# Altium footprint library MSOP_SOP_SSOP_TSOP_TSSOP.PcbLib: 24 footprints (part 1 of 2)
Each footprint in its own frame and in the unit in brackets; x right, y up, seen from the top. Pads: shape width x height; smd on the part's side, far side on the other; paste and mask are expansions set on the pad; w line width, h text height; cw(c..) or ccw(c..) is an arc to the next point about the centre after c.
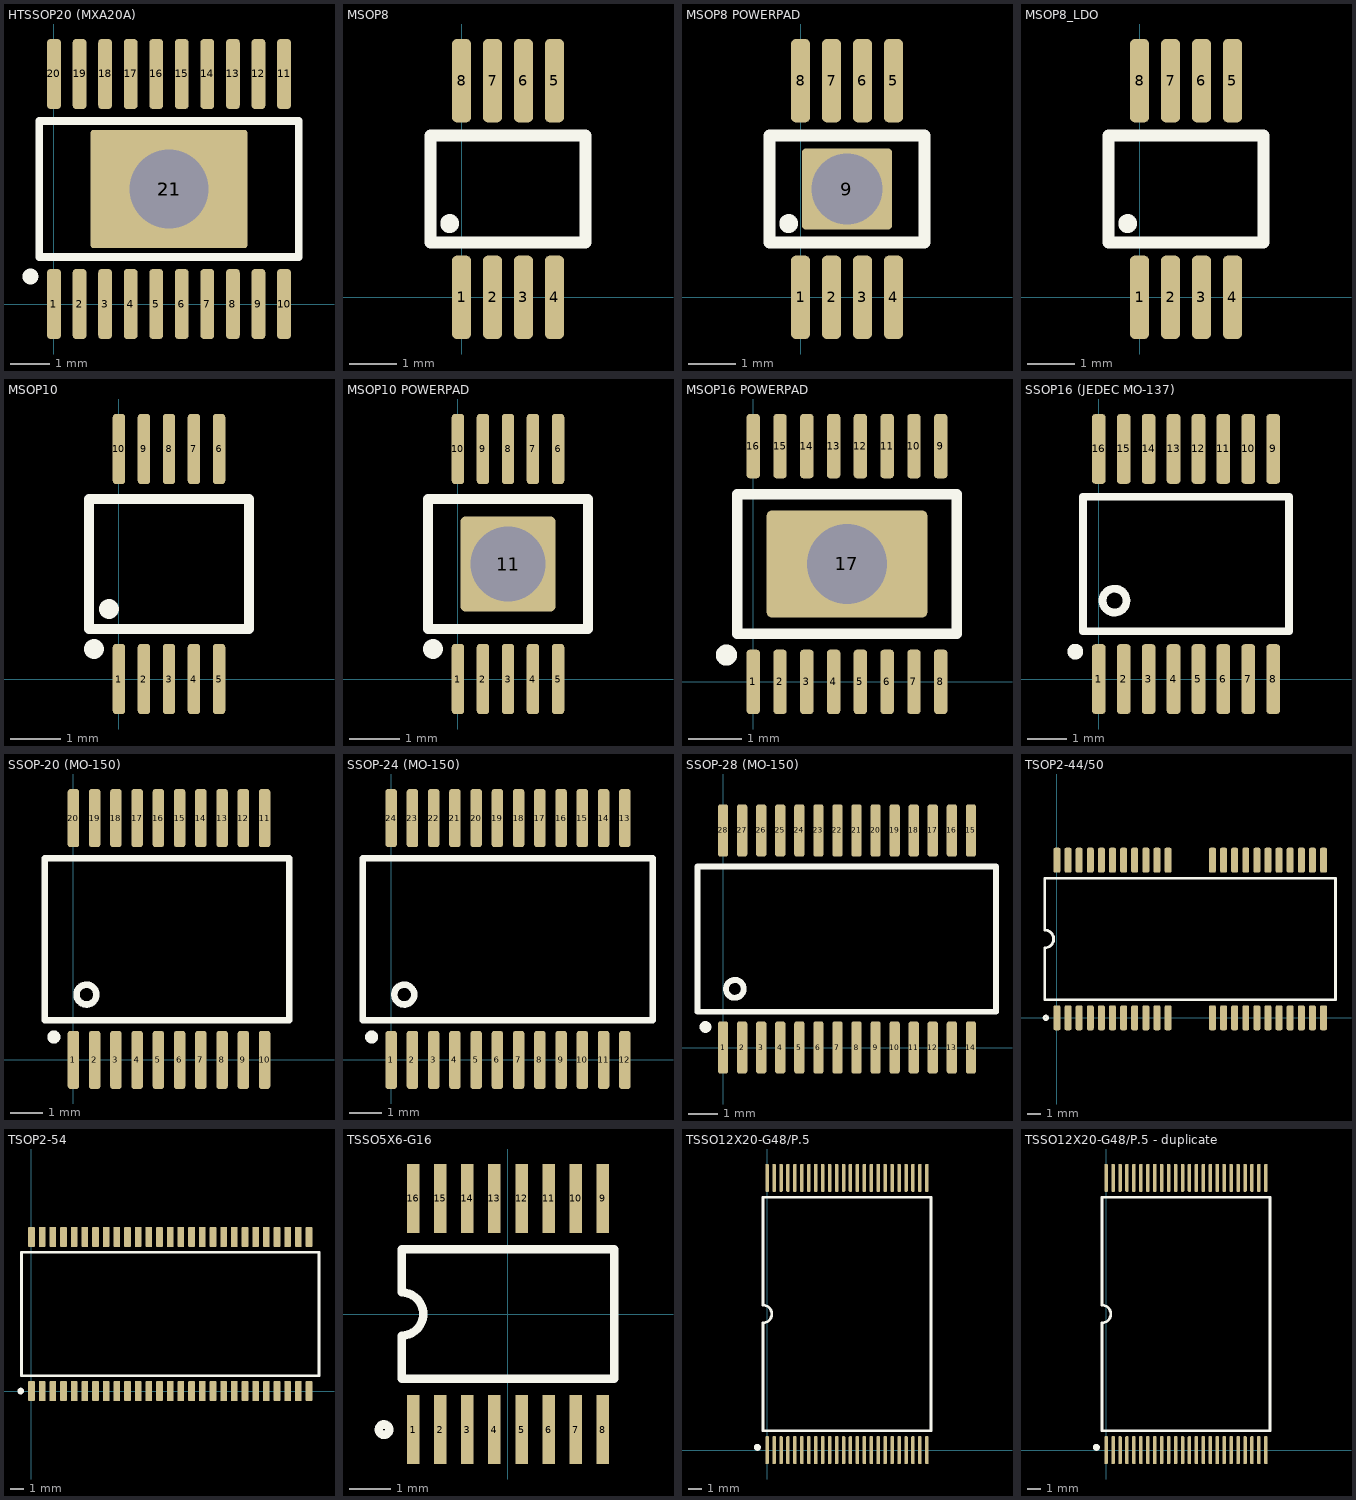
[diagram p0: the footprints below, top view; thin cyan lines are the x and y axes]

## HTSSOP20 (MXA20A) [mm]
pads (22):
  rrect50% 0.35x1.78 smd: 1(0,0) 2(0.65,0) 3(1.3,0) 4(1.95,0) 5(2.6,0) 6(3.25,0) 7(3.9,0) 8(4.55,0) 9(5.2,0) 10(5.85,0) 11(5.85,5.85) 12(5.2,5.85) 13(4.55,5.85) 14(3.9,5.85) 15(3.25,5.85) 16(2.6,5.85) 17(1.95,5.85) 18(1.3,5.85) 19(0.65,5.85) 20(0,5.85)
  rrect5% 4x3 smd: 21(2.925,2.925)
  round 2.5 hole 2: 21(2.925,2.925)
Top Overlay:
  circle w0.2: c-0.6,0.7 r0.1
  lines w0.2: -0.375,1.2 6.225,1.2 6.225,4.65 -0.375,4.65 -0.375,1.2
Top Assembly:
  text ".Designator" at -2.073,2.592 h1
3D body "User Library-TSSOP-20.STEP": height 1.2, standoff 0, extent -0.375,-0.35 6.225,6.2

## MSOP8 [mm]
pads (8):
  rrect50% 0.4x1.75 smd: 1(0,0) 2(0.65,0) 3(1.3,0) 4(1.95,0) 5(1.95,4.55) 6(1.3,4.55) 7(0.65,4.55) 8(0,4.55)
Top Overlay:
  circle w0.254: c-0.25,1.55 r0.071
  lines w0.254: -0.65,1.15 2.6,1.15 2.6,3.4 -0.65,3.4 -0.65,1.15
Top Assembly:
  text ".Designator" at -2.499,2.067 h0.7
3D body "msop-8.STEP": height 1.15, standoff 0, extent -0.525,-0.17 2.475,4.73

## MSOP8 POWERPAD [mm]
pads (9):
  rrect50% 0.4x1.75 smd: 1(0,0) 2(0.65,0) 3(1.3,0) 4(1.95,0) 5(1.95,4.55) 6(1.3,4.55) 7(0.65,4.55) 8(0,4.55)
  rrect10% 1.9x1.7 hole 1.5: 9(0.975,2.275)
Top Overlay:
  circle w0.254: c-0.25,1.55 r0.071
  lines w0.254: -0.65,1.15 -0.65,3.4 2.6,3.4 2.6,1.15 -0.65,1.15
Top Assembly:
  text ".Designator" at -2.499,2.067 h0.7
3D body "msop-8.STEP": height 1.15, standoff 0, extent -0.525,-0.17 2.475,4.73

## MSOP8_LDO [mm]
pads (8):
  rrect50% 0.4x1.75 smd: 1(0,0) 2(0.65,0) 3(1.3,0) 4(1.95,0) 5(1.95,4.55) 6(1.3,4.55) 7(0.65,4.55) 8(0,4.55)
Top Overlay:
  circle w0.254: c-0.25,1.55 r0.071
  lines w0.254: -0.65,1.15 2.6,1.15 2.6,3.4 -0.65,3.4 -0.65,1.15
Top Assembly:
  text ".Designator" at -2.499,2.067 h0.7
3D body "msop-8.STEP": height 1.15, standoff 0, extent -0.525,-0.17 2.475,4.73

## MSOP10 [mm] "MO-187-BA"
pads (10):
  rrect50% 0.25x1.4 smd: 1(0,0) 2(0.5,0) 3(1,0) 4(1.5,0) 5(2,0) 6(2,4.6) 7(1.5,4.6) 8(1,4.6) 9(0.5,4.6) 10(0,4.6)
Top Overlay:
  circle w0.254: c-0.5,0.6 r0.071
  circle w0.254: c-0.2,1.4 r0.071
  lines w0.2: -0.6,1 2.6,1 2.6,3.6 -0.6,3.6 -0.6,1
Top Assembly:
  text ".Designator" at -3.998,1.917 h1
3D body "User Library-msop-10.STEP": height 1.15, standoff 0, extent -0.5,-0.15 2.5,4.75

## MSOP10 POWERPAD [mm] "MO-187-BA"
pads (11):
  rrect50% 0.25x1.4 smd: 1(0,0) 2(0.5,0) 3(1,0) 4(1.5,0) 5(2,0) 6(2,4.6) 7(1.5,4.6) 8(1,4.6) 9(0.5,4.6) 10(0,4.6)
  rrect10% 1.9x1.9 hole 1.5: 11(1,2.3)
Top Overlay:
  circle w0.254: c-0.5,0.6 r0.071
  lines w0.2: -0.6,1 2.6,1 2.6,3.6 -0.6,3.6 -0.6,1
Top Assembly:
  text ".Designator" at -3.998,1.967 h1
3D body "User Library-msop-10.STEP": height 1.15, standoff 0, extent -0.5,-0.15 2.5,4.75

## MSOP16 POWERPAD [mm] "MSE Package (Reference LTC DWG # 05-08-1667 Rev F)"
pads (17):
  rrect50% 0.25x1.2 smd: 1(0,0) 2(0.5,0) 3(1,0) 4(1.5,0) 5(2,0) 6(2.5,0) 7(3,0) 8(3.5,0) 9(3.5,4.4) 10(3,4.4) 11(2.5,4.4) 12(2,4.4) 13(1.5,4.4) 14(1,4.4) 15(0.5,4.4) 16(0,4.4)
  rrect10% 3x2 hole 1.5: 17(1.75,2.2)
Top Overlay:
  circle w0.254: c-0.5,0.5 r0.071
  lines w0.2: -0.3,0.9 -0.3,3.5 3.8,3.5 3.8,0.9 -0.3,0.9
Top Assembly:
  text ".Designator" at -3.248,1.867 h1
3D body "User Library-MSOP-16.STEP": height 0.9, standoff 0.04, extent -0.269,-0.25 3.77,4.65

## SSOP16 (JEDEC MO-137) [mm]
pads (16):
  rrect50% 0.35x1.78 smd: 1(0,0) 2(0.635,0) 3(1.27,0) 4(1.905,0) 5(2.54,0) 6(3.175,0) 7(3.81,0) 8(4.445,0) 9(4.445,5.867) 10(3.81,5.867) 11(3.175,5.867) 12(2.54,5.867) 13(1.905,5.867) 14(1.27,5.867) 15(0.635,5.867) 16(0,5.867)
Top Overlay:
  circle w0.2: c0.4,2 r0.304
  circle w0.2: c-0.6,0.7 r0.1
  lines w0.2: -0.406,1.219 -0.406,4.648 4.851,4.648 4.851,1.219 -0.406,1.219
Top Assembly:
  text ".Designator" at -2.798,3.067 h1
3D body "User Library-IPC SSOP16 MO-137.STEP": height 1.75, standoff 0, extent -0.275,-0.078 4.725,5.978

## SSOP-20 (MO-150) [mm]
pads (20):
  rrect50% 0.35x1.78 smd: 1(0,0) 2(0.65,0) 3(1.3,0) 4(1.95,0) 5(2.6,0) 6(3.25,0) 7(3.9,0) 8(4.55,0) 9(5.2,0) 10(5.85,0) 11(5.85,7.4) 12(5.2,7.4) 13(4.55,7.4) 14(3.9,7.4) 15(3.25,7.4) 16(2.6,7.4) 17(1.95,7.4) 18(1.3,7.4) 19(0.65,7.4) 20(0,7.4)
Top Overlay:
  circle w0.2: c0.4,2 r0.304
  circle w0.2: c-0.6,0.7 r0.1
  lines w0.2: -0.875,1.219 -0.875,6.175 6.6,6.175 6.6,1.219 -0.875,1.219
Top Assembly:
  text ".Designator" at -2.098,3.767 h1
3D body "SSOP-20 MO-150.STEP": height 2.15, standoff 0, extent -0.775,-0.2 6.625,7.606

## SSOP-24 (MO-150) [mm]
pads (24):
  rrect50% 0.35x1.78 smd: 1(0,0) 2(0.65,0) 3(1.3,0) 4(1.95,0) 5(2.6,0) 6(3.25,0) 7(3.9,0) 8(4.55,0) 9(5.2,0) 10(5.85,0) 11(6.5,0) 12(7.15,0) 13(7.15,7.4) 14(6.5,7.4) 15(5.85,7.4) 16(5.2,7.4) 17(4.55,7.4) 18(3.9,7.4) 19(3.25,7.4) 20(2.6,7.4) 21(1.95,7.4) 22(1.3,7.4) 23(0.65,7.4) 24(0,7.4)
Top Overlay:
  circle w0.2: c-0.6,0.7 r0.1
  circle w0.2: c0.4,2 r0.304
  lines w0.2: -0.875,1.219 8,1.219 8,6.175 -0.875,6.175 -0.875,1.219
Top Assembly:
  text ".Designator" at -1.398,3.367 h1
3D body "User Library-SSOP 24 PIN_.STEP": height 1.98, standoff -0.01, extent -0.74,-0.25 7.89,7.65

## SSOP-28 (MO-150) [mm]
pads (28):
  rrect50% 0.35x1.78 smd: 1(0,0) 2(0.65,0) 3(1.3,0) 4(1.95,0) 5(2.6,0) 6(3.25,0) 7(3.9,0) 8(4.55,0) 9(5.2,0) 10(5.85,0) 11(6.5,0) 12(7.15,0) 13(7.8,0) 14(8.45,0) 15(8.45,7.4) 16(7.8,7.4) 17(7.15,7.4) 18(6.5,7.4) 19(5.85,7.4) 20(5.2,7.4) 21(4.55,7.4) 22(3.9,7.4) 23(3.25,7.4) 24(2.6,7.4) 25(1.95,7.4) 26(1.3,7.4) 27(0.65,7.4) 28(0,7.4)
Top Overlay:
  circle w0.2: c-0.6,0.7 r0.1
  circle w0.2: c0.4,2 r0.304
  lines w0.2: -0.875,1.219 9.3,1.219 9.3,6.175 -0.875,6.175 -0.875,1.219
Top Assembly:
  text ".Designator" at -0.798,3.367 h1
3D body "User Library-IPC SOSOP65P778X199-28N MO-150 SSOP.STEP": height 2.14, standoff 0, extent -0.95,-0.225 9.38,7.611

## TSOP2-44/50 [mm]
height 2.54
pads (44):
  rrect50% 0.5x1.8 smd: 1(0,0) 2(0.8,0) 3(1.6,0) 4(2.4,0) 5(3.2,0) 6(4,0) 7(4.8,0) 8(5.6,0) 9(6.4,0) 10(7.2,0) 11(8,0) 12(11.2,0) 13(12,0) 14(12.8,0) 15(13.6,0) 16(14.4,0) 17(15.2,0) 18(16,0) 19(16.8,0) 20(17.6,0) 21(18.4,0) 22(19.2,0) 23(19.2,11.35) 24(18.4,11.35) 25(17.6,11.35) 26(16.8,11.35) 27(16,11.35) 28(15.2,11.35) 29(14.4,11.35) 30(13.6,11.35) 31(12.8,11.35) 32(12,11.35) 33(11.2,11.35) 34(8,11.35) 35(7.2,11.35) 36(6.4,11.35) 37(5.6,11.35) 38(4.8,11.35) 39(4,11.35) 40(3.2,11.35) 41(2.4,11.35) 42(1.6,11.35) 43(0.8,11.35) 44(0,11.35)
Top Overlay:
  circle w0.203: c-0.8,0 r0.125
  lines w0.203: -0.875,1.3 20.075,1.3 20.075,10.05 -0.875,10.05 -0.875,6.31 cw(c-0.875,5.675) -0.875,5.04 -0.875,1.3
Top Assembly:
  text ".Designator" at 4.602,5.267 h1

## TSOP2-54 [mm]
pads (54):
  rrect25% 0.5x1.5 smd: 1(0,0) 2(0.8,0) 3(1.6,0) 4(2.4,0) 5(3.2,0) 6(4,0) 7(4.8,0) 8(5.6,0) 9(6.4,0) 10(7.2,0) 11(8,0) 12(8.8,0) 13(9.6,0) 14(10.4,0) 15(11.2,0) 16(12,0) 17(12.8,0) 18(13.6,0) 19(14.4,0) 20(15.2,0) 21(16,0) 22(16.8,0) 23(17.6,0) 24(18.4,0) 25(19.2,0) 26(20,0) 27(20.8,0) 28(20.8,11.55) 29(20,11.55) 30(19.2,11.55) 31(18.4,11.55) 32(17.6,11.55) 33(16.8,11.55) 34(16,11.55) 35(15.2,11.55) 36(14.4,11.55) 37(13.6,11.55) 38(12.8,11.55) 39(12,11.55) 40(11.2,11.55) 41(10.4,11.55) 42(9.6,11.55) 43(8.8,11.55) 44(8,11.55) 45(7.2,11.55) 46(6.4,11.55) 47(5.6,11.55) 48(4.8,11.55) 49(4,11.55) 50(3.2,11.55) 51(2.4,11.55) 52(1.6,11.55) 53(0.8,11.55) 54(0,11.55)
Top Overlay:
  circle w0.25: c-0.81,0 r0.125
  lines w0.2: -0.75,1.15 -0.75,4.915 -0.75,10.4 21.55,10.4 21.55,1.15 -0.75,1.15
Top Assembly:
  text ".Designator" at 5.802,5.167 h1
3D body "SW3dPS-TSOP2-54.STEP": height 1.3, standoff -0.4, extent -0.675,-0.1 21.545,11.66

## TSSO5X6-G16 [mm] "Shrink Small Outline; 16 Leads; Body Width 4.4 mm; Pitch 0.65 mm"
height 1.1
pads (16):
  rect 0.3x1.65 smd: 1(-2.275,-2.775) 2(-1.625,-2.775) 3(-0.975,-2.775) 4(-0.325,-2.775) 5(0.325,-2.775) 6(0.975,-2.775) 7(1.625,-2.775) 8(2.275,-2.775) 9(2.275,2.775) 10(1.625,2.775) 11(0.975,2.775) 12(0.325,2.775) 13(-0.325,2.775) 14(-0.975,2.775) 15(-1.625,2.775) 16(-2.275,2.775)
Top Overlay:
  circle w0.203: c-2.975,-2.775 r0.125
  lines w0.203: -2.55,-1.55 2.55,-1.55 2.55,1.55 -2.55,1.55 -2.55,0.517 cw(c-2.55,0) -2.55,-0.517 -2.55,-1.55
Top Assembly:
  text ".Designator" at -3.499,-0.233 h0.7

## TSSO12X20-G48/P.5 [mm]
pads (48):
  rrect50% 0.25x2 smd: 1(0,0) 2(0.5,0) 3(1,0) 4(1.5,0) 5(2,0) 6(2.5,0) 7(3,0) 8(3.5,0) 9(4,0) 10(4.5,0) 11(5,0) 12(5.5,0) 13(6,0) 14(6.5,0) 15(7,0) 16(7.5,0) 17(8,0) 18(8.5,0) 19(9,0) 20(9.5,0) 21(10,0) 22(10.5,0) 23(11,0) 24(11.5,0) 25(11.5,19.6) 26(11,19.6) 27(10.5,19.6) 28(10,19.6) 29(9.5,19.6) 30(9,19.6) 31(8.5,19.6) 32(8,19.6) 33(7.5,19.6) 34(7,19.6) 35(6.5,19.6) 36(6,19.6) 37(5.5,19.6) 38(5,19.6) 39(4.5,19.6) 40(4,19.6) 41(3.5,19.6) 42(3,19.6) 43(2.5,19.6) 44(2,19.6) 45(1.5,19.6) 46(1,19.6) 47(0.5,19.6) 48(0,19.6)
Top Overlay:
  circle w0.25: c-0.7,0.2 r0.125
  lines w0.2: -0.3,1.4 11.8,1.4 11.8,18.2 -0.3,18.2 -0.3,10.435 cw(c-0.3,9.8) -0.3,9.165 -0.3,1.4
Top Assembly:
  text ".Designator" at 1.102,9.467 h1
3D body "User Library-TSOP48-1.STEP": height 1.2, standoff 0, extent -0.3,-0.3 11.8,19.9

## TSSO12X20-G48/P.5 - duplicate [mm]
pads (48):
  rrect50% 0.25x2 smd: 1(0,0) 2(0.5,0) 3(1,0) 4(1.5,0) 5(2,0) 6(2.5,0) 7(3,0) 8(3.5,0) 9(4,0) 10(4.5,0) 11(5,0) 12(5.5,0) 13(6,0) 14(6.5,0) 15(7,0) 16(7.5,0) 17(8,0) 18(8.5,0) 19(9,0) 20(9.5,0) 21(10,0) 22(10.5,0) 23(11,0) 24(11.5,0) 25(11.5,19.6) 26(11,19.6) 27(10.5,19.6) 28(10,19.6) 29(9.5,19.6) 30(9,19.6) 31(8.5,19.6) 32(8,19.6) 33(7.5,19.6) 34(7,19.6) 35(6.5,19.6) 36(6,19.6) 37(5.5,19.6) 38(5,19.6) 39(4.5,19.6) 40(4,19.6) 41(3.5,19.6) 42(3,19.6) 43(2.5,19.6) 44(2,19.6) 45(1.5,19.6) 46(1,19.6) 47(0.5,19.6) 48(0,19.6)
Top Overlay:
  circle w0.25: c-0.7,0.2 r0.125
  lines w0.2: -0.3,1.4 -0.3,9.165 ccw(c-0.3,9.8) -0.3,10.435 -0.3,18.2 11.8,18.2 11.8,1.4 -0.3,1.4
Top Assembly:
  text ".Designator" at 0.802,9.467 h1
3D body "User Library-IPC SO.STEP": height 1.35, standoff 0, extent 12.6,-0.006 24.7,20.05
3D body "User Library-IPC SO.STEP": height 1.35, standoff 0, extent -14.65,-0.31 -2.55,19.746